# EAGLE library part PCA9600 (library Fugu_LSI)
Dual bidirectional bus buffer
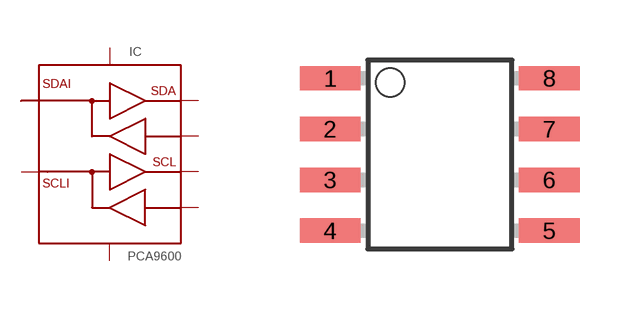
[diagram p29: symbol with the pads of SO-8; footprint SO-8]

Designator prefix IC

## PCA9600  [SO-8]
1  SDAI
2  SDA_RX
3  SDA_TX
4  VSS  pwr
5  SCL_TX
6  SCL_RX
7  SCLI
8  VDD  pwr

## Footprint SO-8 (pad centres in mm)
SO 8 small outline
smd 1.524 x 0.61: 1 -2.743,1.905; 2 -2.743,0.635; 3 -2.743,-0.635; 4 -2.743,-1.905; 5 2.743,-1.905; 6 2.743,-0.635; 7 2.743,0.635; 8 2.743,1.905